# Altium schematic symbol library MIC5270.Schlib: 1 symbol
Pins are listed as number, name and electrical type; pins without a type are passive.

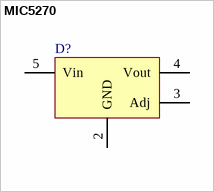
[diagram p0: symbol MIC5270]

## MIC5270
designator D?
Negative LDO regulator; Package Information: Latest Revision: ver11.0, Feb-2003; Configures: APEX II, APEX 20K, Mercury, ACEX 1K & FLEX Devices; Code - JEDEC: MS-026-ABA; Published: 17-Sep-2003; Datasheet: Latest Revision: ver1.1, Oct-2003; Package Reference: TQFP32; Publisher: Altium Limited
footprint SOT23-5
pins: 2 GND (power), 3 Adj (power), 4 Vout (power), 5 Vin (power)